# Altium schematic symbol library Header 3.Schlib: 1 symbol
Pins are listed as number, name and electrical type; pins without a type are passive.

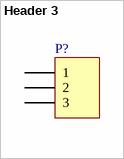
[diagram p0: symbol Header 3]

## Header 3
designator P?
Header, 3-Pin
pins: 1, 2, 3